# Altium footprint library Anlogic Eagle FPGA E104 V2.0 20221204.PcbLib: 17 footprints (part 1 of 2)
Each footprint in its own frame and in the unit in brackets; x right, y up, seen from the top. Pads: shape width x height; smd on the part's side, far side on the other; paste and mask are expansions set on the pad; w line width, h text height; cw(c..) or ccw(c..) is an arc to the next point about the centre after c.
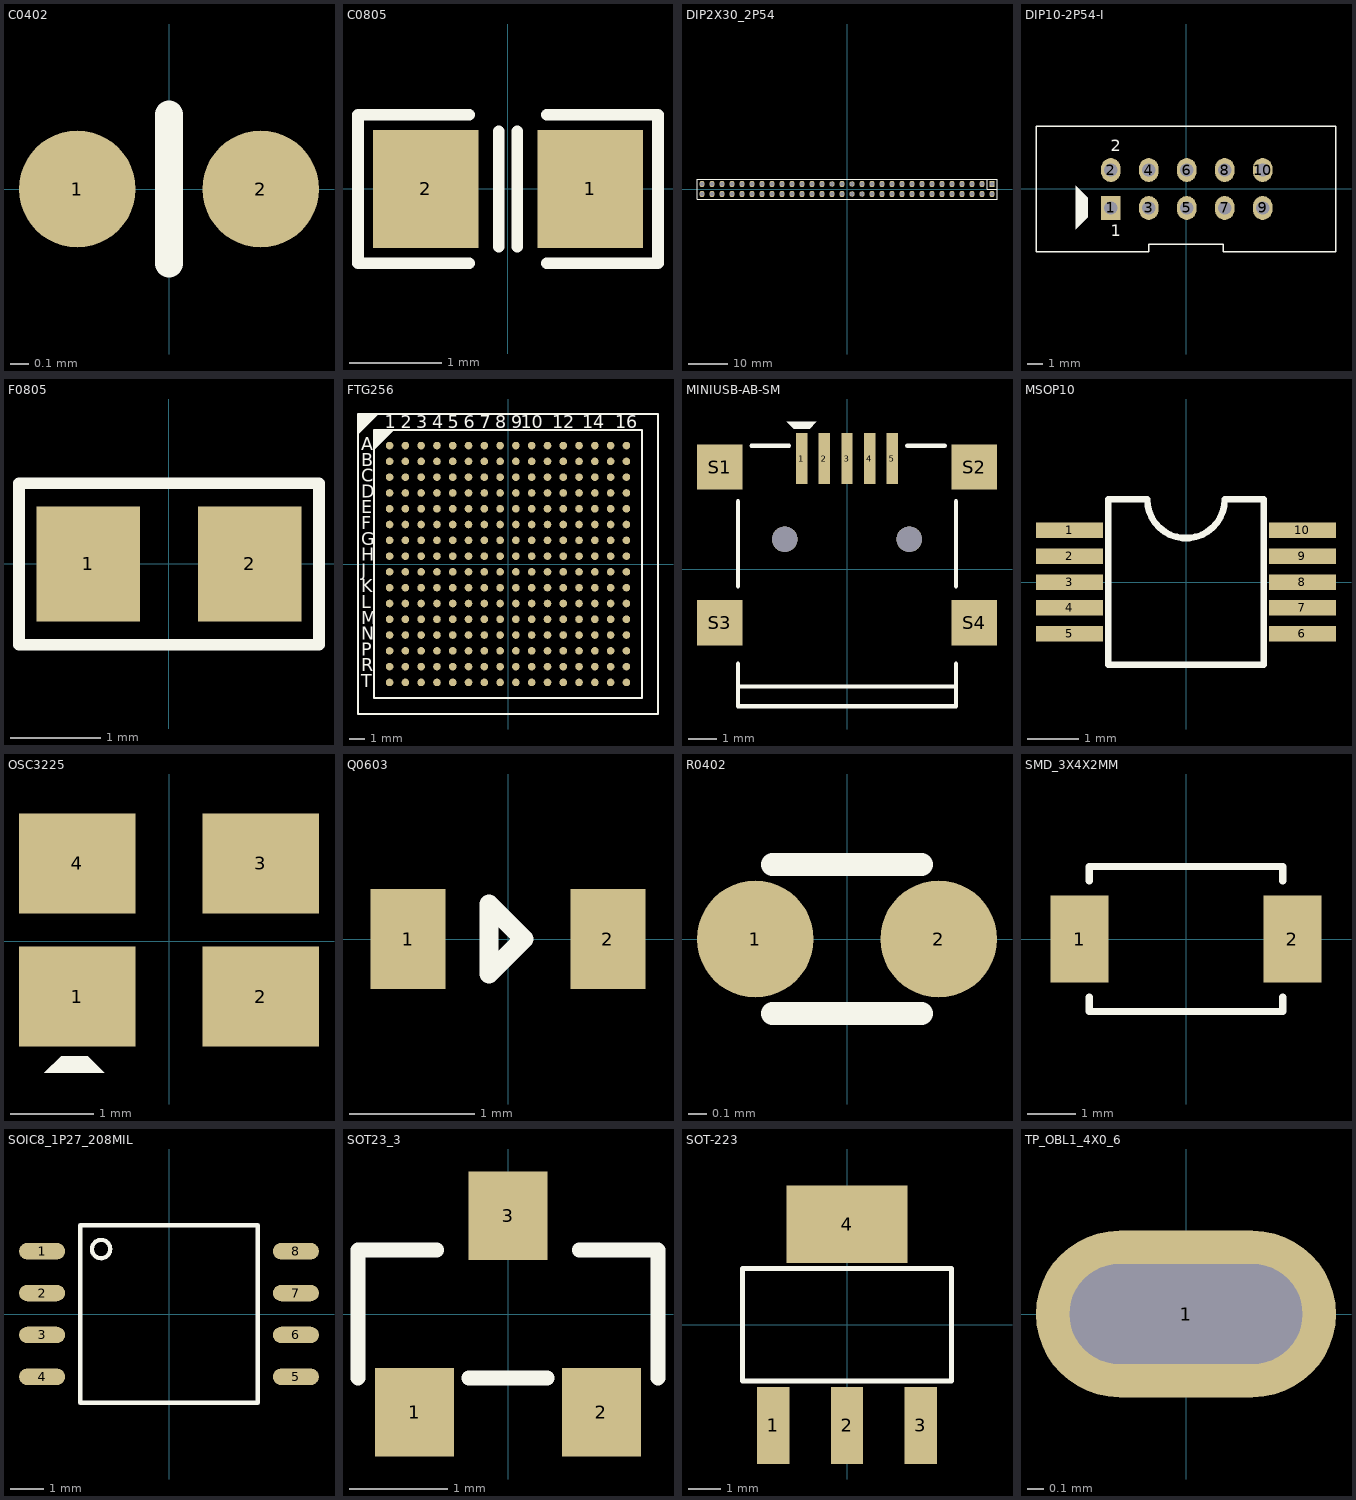
[diagram p0: the footprints below, top view; thin cyan lines are the x and y axes]

## C0402 [mil] "C0402"
pads (2):
  round 25 smd: 1(-19.68,0) 2(19.68,0)
Top Overlay:
  lines w6: 0,-16 0,16

## C0805 [mil] "C0805"
pads (2):
  rect 44.9x50 smd: 1(35,0) 2(-35,0)
Top Overlay:
  lines w4.92: -16.54,-31.5 -63.78,-31.5 -63.78,31.5 -16.54,31.5 ; -3.94,-24.61 -3.94,24.61 ; 3.94,-24.61 3.94,24.61 ; 16.54,-31.5 63.78,-31.5 63.78,31.5 16.54,31.5

## DIP2X30_2P54 [mm] "DIP2X30_2P54"
pads (60):
  rect 1.3x1.6 hole 0.9: 1(36.805,1.27)
  oval 1.3x1.6 hole 0.9: 2(36.805,-1.27) 3(34.265,1.27) 4(34.265,-1.27) 5(31.725,1.27) 6(31.725,-1.27) 7(29.185,1.27) 8(29.185,-1.27) 9(26.645,1.27) 10(26.645,-1.27) 11(24.105,1.27) 12(24.105,-1.27) 13(21.565,1.27) 14(21.565,-1.27) 15(19.025,1.27) 16(19.025,-1.27) 17(16.485,1.27) 18(16.485,-1.27) 19(13.945,1.27) 20(13.945,-1.27) 21(11.405,1.27) 22(11.405,-1.27) 23(8.865,1.27) 24(8.865,-1.27) 25(6.325,1.27) 26(6.325,-1.27) 27(3.785,1.27) 31(-1.295,1.27) 32(-1.295,-1.27) 34(-3.835,-1.27) 35(-6.375,1.27) 36(-6.375,-1.27) 37(-8.915,1.27) 38(-8.915,-1.27) 39(-11.455,1.27) 40(-11.455,-1.27) 41(-13.995,1.27) 42(-13.995,-1.27) 43(-16.535,1.27) 44(-16.535,-1.27) 45(-19.075,1.27) 46(-19.075,-1.27) 47(-21.615,1.27) 48(-21.615,-1.27) 49(-24.155,1.27) 50(-24.155,-1.27) 51(-26.695,1.27) 52(-26.695,-1.27) 53(-29.235,1.27) 54(-29.235,-1.27) 55(-31.775,1.27) 56(-31.775,-1.27) 57(-34.315,1.27) 58(-34.315,-1.27) 59(-36.855,1.27) 60(-36.855,-1.27)
  oval 1.3x1.4 hole 0.9: 28(3.785,-1.27) 29(1.245,1.27) 30(1.245,-1.27) 33(-3.835,1.27)
Top Overlay:
  lines w0.152: 35.535,2.54 35.535,0 38.075,0 ; -38.125,-2.54 38.075,-2.54 38.075,2.54 -38.125,2.54 -38.125,-2.54

## DIP10-2P54-I [mm] "DIP10-2P54-I"
pads (10):
  rect 1.3x1.6 hole 0.9: 1(-5.05,-1.3)
  oval 1.3x1.6 hole 0.9: 2(-5.05,1.24) 3(-2.51,-1.3) 4(-2.51,1.24) 5(0.03,-1.3) 6(0.03,1.24) 7(2.57,-1.3) 8(2.57,1.24) 9(5.11,-1.3) 10(5.11,1.24)
Top Overlay:
  region: -6.605,-0.619 -6.605,-1.919 -7.405,-2.719 -7.405,0.181
  lines w0.1: -10.05,-4.24 -2.51,-4.24 -2.51,-3.74 2.47,-3.74 2.47,-4.24 10.01,-4.24 10.01,4.18 -10.05,4.18 -10.05,-4.24
  text "1" at -5.05,-3.2 h0.79
  text "2" at -5.05,2.51 h0.79

## F0805 [mil] "F0805"
pads (2):
  rect 44.9x50 smd: 1(-35,0) 2(35,0)
Top Overlay:
  lines w5: -65,-35 -65,35 65,35 65,30 65,-35 -65,-35

## FTG256 [mil] "FTG256"
pads (256):
  round 19 smd: A1(-295.28,295.28) A2(-255.91,295.28) A3(-216.54,295.28) A4(-177.17,295.28) A5(-137.8,295.28) A6(-98.43,295.28) A7(-59.06,295.28) A8(-19.69,295.28) A9(19.69,295.28) A10(59.06,295.28) A11(98.43,295.28) A12(137.8,295.28) A13(177.17,295.28) A14(216.54,295.28) A15(255.91,295.28) A16(295.28,295.28) B1(-295.28,255.91) B2(-255.91,255.91) B3(-216.54,255.91) B4(-177.17,255.91) B5(-137.8,255.91) B6(-98.43,255.91) B7(-59.06,255.91) B8(-19.69,255.91) B9(19.69,255.91) B10(59.06,255.91) B11(98.43,255.91) B12(137.8,255.91) B13(177.17,255.91) B14(216.54,255.91) B15(255.91,255.91) B16(295.28,255.91) C1(-295.28,216.54) C2(-255.91,216.54) C3(-216.54,216.54) C4(-177.17,216.54) C5(-137.8,216.54) C6(-98.43,216.54) C7(-59.06,216.54) C8(-19.69,216.54) C9(19.69,216.54) C10(59.06,216.54) C11(98.43,216.54) C12(137.8,216.54) C13(177.17,216.54) C14(216.54,216.54) C15(255.91,216.54) C16(295.28,216.54) D1(-295.28,177.17) D2(-255.91,177.17) D3(-216.54,177.17) D4(-177.17,177.17) D5(-137.8,177.17) D6(-98.43,177.17) D7(-59.06,177.17) D8(-19.69,177.17) D9(19.69,177.17) D10(59.06,177.17) D11(98.43,177.17) D12(137.8,177.17) D13(177.17,177.17) D14(216.54,177.17) D15(255.91,177.17) D16(295.28,177.17) E1(-295.28,137.8) E2(-255.91,137.8) E3(-216.54,137.8) E4(-177.17,137.8) E5(-137.8,137.8) E6(-98.43,137.8) E7(-59.06,137.8) E8(-19.69,137.8) E9(19.69,137.8) E10(59.06,137.8) E11(98.43,137.8) E12(137.8,137.8) E13(177.17,137.8) E14(216.54,137.8) E15(255.91,137.8) E16(295.28,137.8) F1(-295.28,98.43) F2(-255.91,98.43) F3(-216.54,98.43) F4(-177.17,98.43) F5(-137.8,98.43) F6(-98.43,98.43) F7(-59.06,98.43) F8(-19.69,98.43) F9(19.69,98.43) F10(59.06,98.43) F11(98.43,98.43) F12(137.8,98.43) F13(177.17,98.43) F14(216.54,98.43) F15(255.91,98.43) F16(295.28,98.43) G1(-295.28,59.06) G2(-255.91,59.06) G3(-216.54,59.06) G4(-177.17,59.06) G5(-137.8,59.06) G6(-98.43,59.06) G7(-59.06,59.06) G8(-19.69,59.06) G9(19.69,59.06) G10(59.06,59.06) G11(98.43,59.06) G12(137.8,59.06) G13(177.17,59.06) G14(216.54,59.06) G15(255.91,59.06) G16(295.28,59.06) H1(-295.28,19.69) H2(-255.91,19.69) H3(-216.54,19.69) H4(-177.17,19.69) H5(-137.8,19.69) H6(-98.43,19.69) H7(-59.06,19.69) H8(-19.69,19.69) H9(19.69,19.69) H10(59.06,19.69) H11(98.43,19.69) H12(137.8,19.69) H13(177.17,19.69) H14(216.54,19.69) H15(255.91,19.69) H16(295.28,19.69) J1(-295.28,-19.69) J2(-255.91,-19.69) J3(-216.54,-19.69) J4(-177.17,-19.69) J5(-137.8,-19.69) J6(-98.43,-19.69) J7(-59.06,-19.69) J8(-19.69,-19.69) J9(19.69,-19.69) J10(59.06,-19.69) J11(98.43,-19.69) J12(137.8,-19.69) J13(177.17,-19.69) J14(216.54,-19.69) J15(255.91,-19.69) J16(295.28,-19.69) K1(-295.28,-59.06) K2(-255.91,-59.06) K3(-216.54,-59.06) K4(-177.17,-59.06) K5(-137.8,-59.06) K6(-98.43,-59.06) K7(-59.06,-59.06) K8(-19.69,-59.06) K9(19.69,-59.06) K10(59.06,-59.06) K11(98.43,-59.06) K12(137.8,-59.06) K13(177.17,-59.06) K14(216.54,-59.06) K15(255.91,-59.06) K16(295.28,-59.06) L1(-295.28,-98.43) L2(-255.91,-98.43) L3(-216.54,-98.43) L4(-177.17,-98.43) L5(-137.8,-98.43) L6(-98.43,-98.43) L7(-59.06,-98.43) L8(-19.69,-98.43) L9(19.69,-98.43) L10(59.06,-98.43) L11(98.43,-98.43) L12(137.8,-98.43) L13(177.17,-98.43) L14(216.54,-98.43) L15(255.91,-98.43) L16(295.28,-98.43) M1(-295.28,-137.8) M2(-255.91,-137.8) M3(-216.54,-137.8) M4(-177.17,-137.8) M5(-137.8,-137.8) M6(-98.43,-137.8) M7(-59.06,-137.8) M8(-19.69,-137.8) M9(19.69,-137.8) M10(59.06,-137.8) M11(98.43,-137.8) M12(137.8,-137.8) M13(177.17,-137.8) M14(216.54,-137.8) M15(255.91,-137.8) M16(295.28,-137.8) N1(-295.28,-177.17) N2(-255.91,-177.17) N3(-216.54,-177.17) N4(-177.17,-177.17) N5(-137.8,-177.17) N6(-98.43,-177.17) N7(-59.06,-177.17) N8(-19.69,-177.17) N9(19.69,-177.17) N10(59.06,-177.17) N11(98.43,-177.17) N12(137.8,-177.17) N13(177.17,-177.17) N14(216.54,-177.17) N15(255.91,-177.17) N16(295.28,-177.17) P1(-295.28,-216.54) P2(-255.91,-216.54) P3(-216.54,-216.54) P4(-177.17,-216.54) P5(-137.8,-216.54) P6(-98.43,-216.54) P7(-59.06,-216.54) P8(-19.69,-216.54) P9(19.69,-216.54) P10(59.06,-216.54) P11(98.43,-216.54) P12(137.8,-216.54) P13(177.17,-216.54) P14(216.54,-216.54) P15(255.91,-216.54) P16(295.28,-216.54) R1(-295.28,-255.91) R2(-255.91,-255.91) R3(-216.54,-255.91) R4(-177.17,-255.91) R5(-137.8,-255.91) R6(-98.43,-255.91) R7(-59.06,-255.91) R8(-19.69,-255.91) R9(19.69,-255.91) R10(59.06,-255.91) R11(98.43,-255.91) R12(137.8,-255.91) R13(177.17,-255.91) R14(216.54,-255.91) R15(255.91,-255.91) R16(295.28,-255.91) T1(-295.28,-295.28) T2(-255.91,-295.28) T3(-216.54,-295.28) T4(-177.17,-295.28) T5(-137.8,-295.28) T6(-98.43,-295.28) T7(-59.06,-295.28) T8(-19.69,-295.28) T9(19.69,-295.28) T10(59.06,-295.28) T11(98.43,-295.28) T12(137.8,-295.28) T13(177.17,-295.28) T14(216.54,-295.28) T15(255.91,-295.28) T16(295.28,-295.28)
Top Overlay:
  region: -374.02,374.02 -323.27,374.02 -374.02,323.27
  region: -334.65,334.65 -283.9,334.65 -334.65,283.9
  lines w5: -374.02,-374.02 374.02,-374.02 374.02,374.02 -374.02,374.02 -374.02,-374.02 ; -334.65,-334.65 334.65,-334.65 334.65,334.65 -334.65,334.65 -334.65,-334.65
  text "16" at 267.72,338.58 h32
  text "14" at 185.04,338.58 h32
  text "12" at 110.24,338.58 h32
  text "10" at 31.5,338.58 h32
  text "9" at 7.87,338.58 h32
  text "8" at -31.5,338.58 h32
  text "7" at -70.87,338.58 h32
  text "6" at -110.24,338.58 h32
  text "5" at -149.61,338.58 h32
  text "4" at -188.98,338.58 h32
  text "3" at -228.35,338.58 h32
  text "2" at -267.72,338.58 h32
  text "1" at -307.09,338.58 h32
  text "T" at -366.14,-307.09 h32
  text "R" at -366.14,-267.72 h32
  text "P" at -366.14,-228.35 h32
  text "N" at -366.14,-188.98 h32
  text "M" at -366.14,-149.61 h32
  text "L" at -366.14,-110.24 h32
  text "K" at -366.14,-70.87 h32
  text "J" at -366.14,-31.5 h32
  text "H" at -366.14,7.87 h32
  text "G" at -366.14,47.24 h32
  text "F" at -366.14,86.61 h32
  text "E" at -366.14,125.98 h32
  text "D" at -366.14,165.35 h32
  text "C" at -366.14,204.72 h32
  text "B" at -366.14,244.09 h32
  text "A" at -366.14,283.46 h32

## MINIUSB-AB-SM [mil] "MINIUSB-AB-SM"
pads (11):
  rect 15.75x70.87 smd: 1(-62.99,153.74) 2(-31.5,153.74) 3(0,153.74) 4(31.5,153.74) 5(62.99,153.74)
  round 35.43 hole 35.43: " "(-86.61,41.53) " "(86.61,41.53)
  rect 63x63 smd: S1(-177.17,141.93) S2(177.17,141.93) S3(-177.17,-74.61) S4(177.17,-74.61)
Top Overlay:
  region: -74.41,195.47 -51.97,195.47 -42.52,204.92 -83.86,204.92
  lines w5.91: -151.57,-163.19 151.57,-163.19 ; -151.57,-131.69 -151.57,-190.75 151.57,-190.75 151.57,-131.69 ; -151.57,-23.82 -151.57,94.29 ; -132.68,171.45 -80.71,171.45 ; 83.86,171.45 135.83,171.45 ; 151.57,-23.82 151.57,94.29

## MSOP10 [mm] "MSOP10"
pads (10):
  rect 1.3x0.3 smd: 1(-2.25,1) 2(-2.25,0.5) 3(-2.25,0) 4(-2.25,-0.5) 5(-2.25,-1) 6(2.25,-1) 7(2.25,-0.5) 8(2.25,0) 9(2.25,0.5) 10(2.25,1)
Top Overlay:
  lines w0.127: -1.5,-1.6 -1.5,1.6 -0.75,1.6 ccw(c0,1.6) 0.75,1.6 1.5,1.6 1.5,-1.6 -1.5,-1.6

## OSC3225 [mil] "OSC3225"
pads (4):
  rect 55.12x47.24 smd: 1(-43.31,-26.28) 2(43.31,-26.28) 3(43.31,36.72) 4(-43.31,36.72)
Top Overlay:
  region: -50.98,-54.43 -38.39,-54.43 -30.51,-62.3 -58.86,-62.3

## Q0603 [mil] "Q0603"
pads (2):
  rect 23.62x31.5 smd: 1(-31.5,0) 2(31.5,0)
Top Overlay:
  lines w6: -6,-11 -6,11 5,0 -6,-11

## R0402 [mil] "R0402"
pads (2):
  round 25 smd: 1(-19.73,0.05) 2(19.63,0.05)
Top Overlay:
  lines w5: -16.05,-15.95 15.95,-15.95 ; -16.05,16.05 15.95,16.05

## SMD_3X4X2MM [mil] "SMD_3X4X2MM"
pads (2):
  rect 47.24x70.87 smd: 1(-86.61,0) 2(86.61,0)
Top Overlay:
  lines w5.91: -78.74,-47.24 -78.74,-59.06 78.74,-59.06 78.74,-47.24 ; -78.74,47.24 -78.74,59.06 78.74,59.06 78.74,47.24

## SOIC8_1P27_208MIL [mil] "SOIC8_1P27_208MIL"
pads (8):
  oval 55.12x19.68 smd: 1(-151.57,75) 2(-151.57,25) 3(-151.57,-25) 4(-151.57,-75) 5(151.57,-75) 6(151.57,-25) 7(151.57,25) 8(151.57,75)
Top Overlay:
  circle w4.92: c-81.1,77.56 r10.94
  lines w5: -105.91,-105.91 -105.91,105.91 105.91,105.91 105.91,-105.91 -105.91,-105.91

## SOT23_3 [mil] "SOT23_3"
pads (3):
  rect 31.5x35.43 smd: 1(-37.4,-39.37) 2(37.4,-39.37) 3(0,39.37)
Top Overlay:
  lines w5.91: -60.04,-25.59 -60.04,25.59 -28.54,25.59 ; -15.75,-25.59 15.75,-25.59 ; 28.54,25.59 60.04,25.59 60.04,-25.59

## SOT-223 [mm] "SOT-223"
pads (4):
  rect 1x2.4 smd: 1(-2.29,-3.125) 2(0,-3.125) 3(2.29,-3.125)
  rect 3.75x2.4 smd: 4(0,3.125)
Top Overlay:
  lines w0.15: -3.25,-1.75 -3.25,1.75 3.25,1.75 3.25,-1.75 -3.25,-1.75

## TP_OBL1_4X0_6 [mm] "TP_OBL1_4X0_6"
pads (1):
  oval 1.8x1 hole 0.6 slot 1.397 at 0 deg: 1(0,0)